# Altium footprint library DI_LED_3MM_ANGLED_x2.PcbLib: 1 footprints
Each footprint in its own frame and in the unit in brackets; x right, y up, seen from the top. Pads: shape width x height; smd on the part's side, far side on the other; paste and mask are expansions set on the pad; w line width, h text height; cw(c..) or ccw(c..) is an arc to the next point about the centre after c.
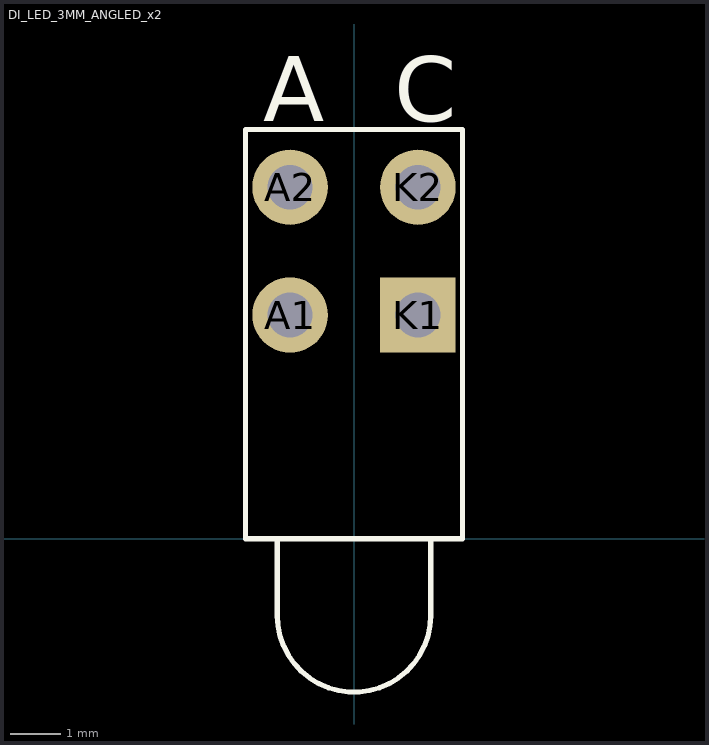
[diagram p0: the footprint, top view; thin cyan lines are the x and y axes]

## DI_LED_3MM_ANGLED_x2 [mil] "DI_LED_3MM_ANGLED_x2"
pads (4):
  round 59 hole 35: A1(-50,175) A2(-50,275) K2(50,275)
  rect 59x59 hole 35: K1(50,175)
Top Overlay:
  lines w4: -60,-0.02 -60,-60.02 ccw(c0,-60.02) 60,-60.02 60,-0.02 ; -85,0 85,0 85,320 -85,320 -85,0
  text "C" at 31.5,326.77 h51
  text "A" at -70.87,326.77 h51